# Altium footprint library CeleronLib_Connect.PcbLib: 219 footprints (part 4 of 14)
Each footprint in its own frame and in the unit in brackets; x right, y up, seen from the top. Pads: shape width x height; smd on the part's side, far side on the other; paste and mask are expansions set on the pad; w line width, h text height; cw(c..) or ccw(c..) is an arc to the next point about the centre after c.
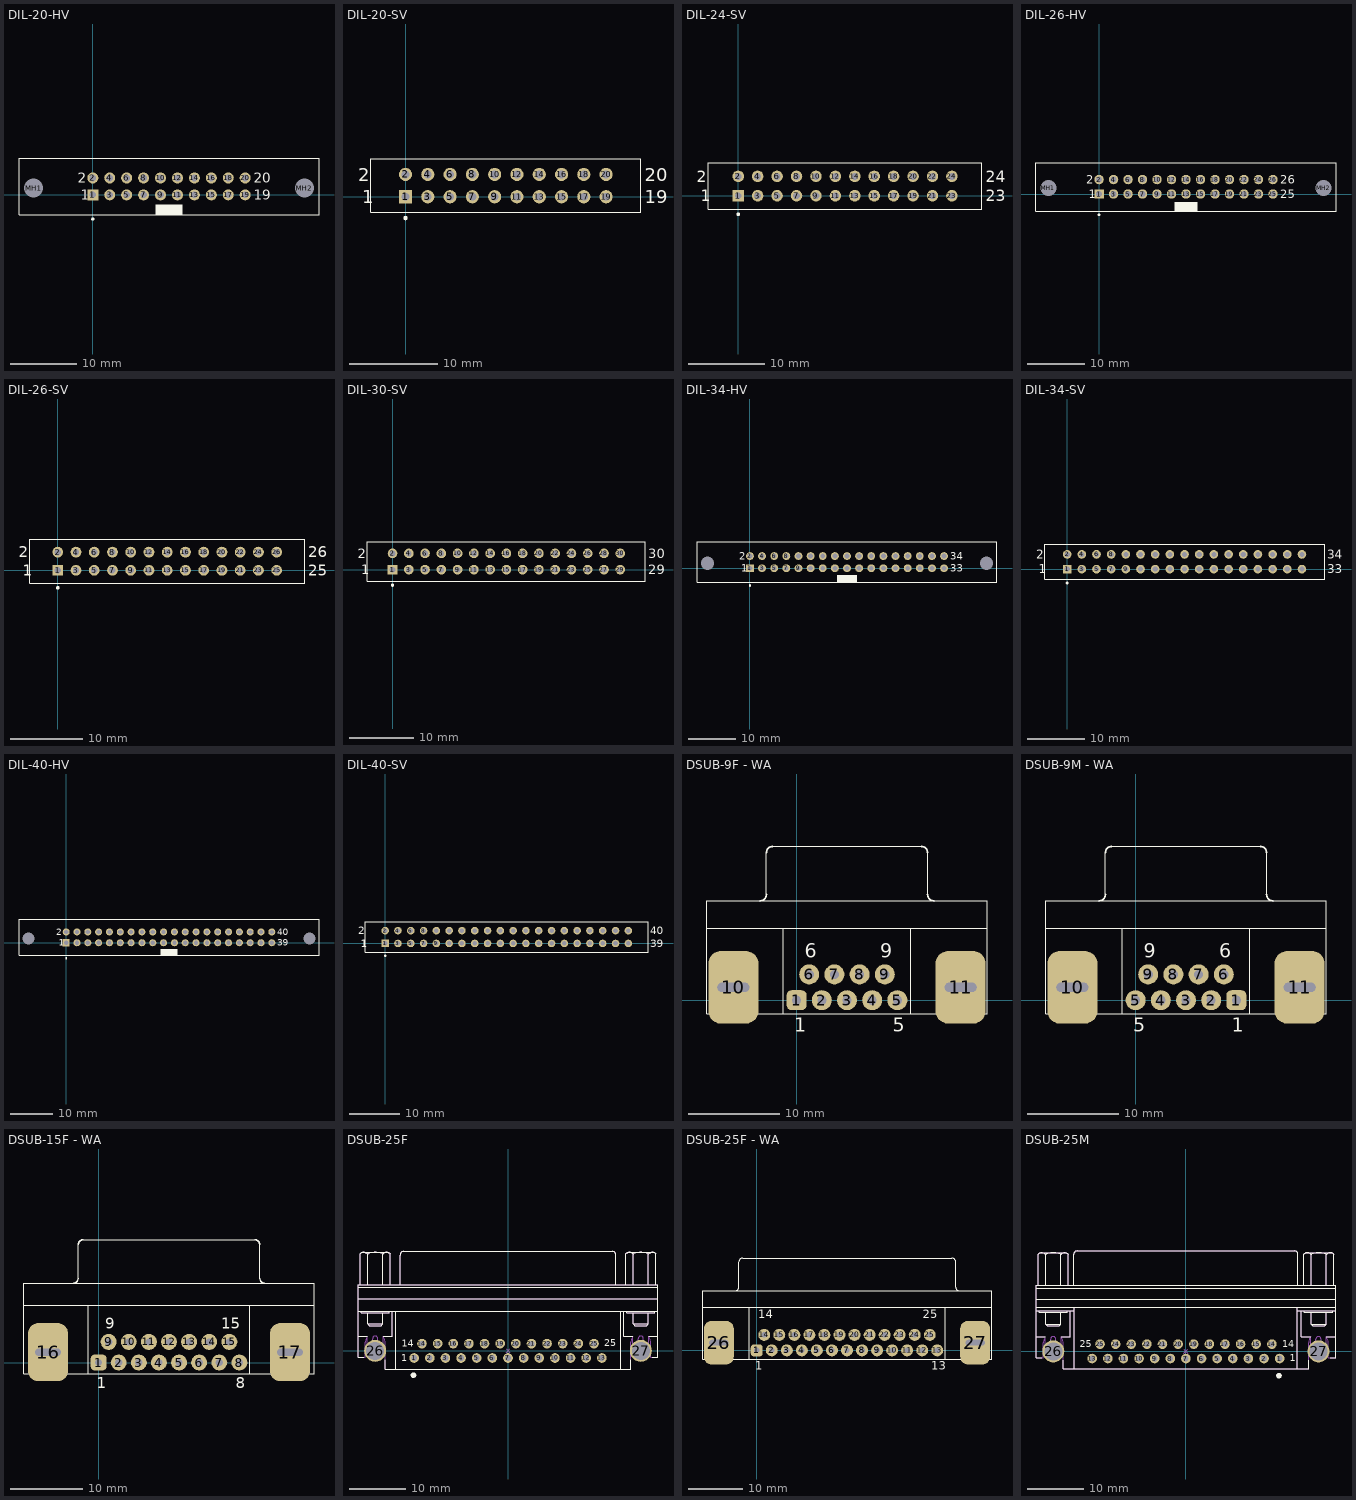
[diagram p3: the footprints below, top view; thin cyan lines are the x and y axes]

## DIL-20-HV [mm] "Connector; IDC, Thru-Hole; 20 Position; Vertical; Pitch 2.54 mm; Body 45.00 x 8.5 x 17.30 mm (LxWxH), Without locking levers"
height 17.3
pads (22):
  rect 1.65x1.65 hole 1: 1(0,0)
  round 1.65 hole 1: 2(0,2.54) 3(2.54,0) 4(2.54,2.54) 5(5.08,0) 6(5.08,2.54) 7(7.62,0) 8(7.62,2.54) 9(10.16,0) 10(10.16,2.54) 11(12.7,0) 12(12.7,2.54) 13(15.24,0) 14(15.24,2.54) 15(17.78,0) 16(17.78,2.54) 17(20.32,0) 18(20.32,2.54) 19(22.86,0) 20(22.86,2.54)
  round 2.5 hole 2.8 unplated: MH1(-8.89,1.02) MH2(31.75,1.02)
Top Overlay:
  circle w0.25: c0,-3.63 r0.125
  rectangle: 9.38,-2.98 13.48,-1.43
  lines w0.127: -11.07,-2.98 33.93,-2.98 33.93,5.52 -11.07,5.52 -11.07,-2.98
  text "19" at 24.14,-0.75 h1.5
  text "20" at 24.14,1.79 h1.5
  text "1" at -1.78,-0.75 h1.5
  text "2" at -2.28,1.79 h1.5

## DIL-20-SV [mm] "Connector; IDC, PCB Transition - 2 Rows, Thru-Hole; 20 Position; Vertical; Pitch 2.54 mm; Body 30.74 x 6.1 x 7.45 mm (LxWxH)"
height 7.45
pads (20):
  rect 1.5x1.5 hole 0.9: 1(0,0)
  round 1.5 hole 0.9: 2(0,2.54) 3(2.54,0) 4(2.54,2.54) 5(5.08,0) 6(5.08,2.54) 7(7.62,0) 8(7.62,2.54) 9(10.16,0) 10(10.16,2.54) 11(12.7,0) 12(12.7,2.54) 13(15.24,0) 14(15.24,2.54) 15(17.78,0) 16(17.78,2.54) 17(20.32,0) 18(20.32,2.54) 19(22.86,0) 20(22.86,2.54)
Top Overlay:
  circle w0.25: c0,-2.43 r0.125
  lines w0.127: -3.94,-1.78 -3.94,4.32 26.8,4.32 26.8,-1.78 -3.94,-1.78
  text "2" at -5.415,1.79 h1.5
  text "1" at -4.915,-0.75 h1.5
  text "20" at 27.275,1.79 h1.5
  text "19" at 27.275,-0.75 h1.5

## DIL-24-SV [mm] "Connector; IDC, PCB Transition - 2 Rows, Thru-Hole; 24 Position; Vertical; Pitch 2.54 mm; Body 35.78 x 6.1 x 7.45 mm (LxWxH)"
height 7.45
pads (24):
  rect 1.5x1.5 hole 0.9: 1(0,0)
  round 1.5 hole 0.9: 2(0,2.54) 3(2.54,0) 4(2.54,2.54) 5(5.08,0) 6(5.08,2.54) 7(7.62,0) 8(7.62,2.54) 9(10.16,0) 10(10.16,2.54) 11(12.7,0) 12(12.7,2.54) 13(15.24,0) 14(15.24,2.54) 15(17.78,0) 16(17.78,2.54) 17(20.32,0) 18(20.32,2.54) 19(22.86,0) 20(22.86,2.54) 21(25.4,0) 22(25.4,2.54) 23(27.94,0) 24(27.94,2.54)
Top Overlay:
  circle w0.25: c0,-2.43 r0.125
  lines w0.127: -3.92,-1.78 -3.92,4.32 31.86,4.32 31.86,-1.78 -3.92,-1.78
  text "2" at -5.395,1.79 h1.5
  text "1" at -4.895,-0.75 h1.5
  text "24" at 32.335,1.79 h1.5
  text "23" at 32.335,-0.75 h1.5

## DIL-26-HV [mm] "Connector; IDC, Thru-Hole; 26 Position; Vertical; Pitch 2.54 mm; Body 52.60 x 8.5 x 17.30 mm (LxWxH), Without locking levers"
height 17.3
pads (28):
  rect 1.65x1.65 hole 1: 1(0,0)
  round 1.65 hole 1: 2(0,2.54) 3(2.54,0) 4(2.54,2.54) 5(5.08,0) 6(5.08,2.54) 7(7.62,0) 8(7.62,2.54) 9(10.16,0) 10(10.16,2.54) 11(12.7,0) 12(12.7,2.54) 13(15.24,0) 14(15.24,2.54) 15(17.78,0) 16(17.78,2.54) 17(20.32,0) 18(20.32,2.54) 19(22.86,0) 20(22.86,2.54) 21(25.4,0) 22(25.4,2.54) 23(27.94,0) 24(27.94,2.54) 25(30.48,0) 26(30.48,2.54)
  round 2.5 hole 2.8 unplated: MH1(-8.89,1.02) MH2(39.37,1.02)
Top Overlay:
  circle w0.25: c0,-3.63 r0.125
  rectangle: 13.19,-2.98 17.29,-1.43
  lines w0.127: -11.06,-2.98 41.54,-2.98 41.54,5.52 -11.06,5.52 -11.06,-2.98
  text "25" at 31.76,-0.75 h1.5
  text "26" at 31.76,1.79 h1.5
  text "1" at -1.78,-0.75 h1.5
  text "2" at -2.28,1.79 h1.5

## DIL-26-SV [mm] "Connector; IDC, PCB Transition - 2 Rows, Thru-Hole; 26 Position; Vertical; Pitch 2.54 mm; Body 38.32 x 6.1 x 7.45 mm (LxWxH)"
height 7.45
pads (26):
  rect 1.5x1.5 hole 0.9: 1(0,0)
  round 1.5 hole 0.9: 2(0,2.54) 3(2.54,0) 4(2.54,2.54) 5(5.08,0) 6(5.08,2.54) 7(7.62,0) 8(7.62,2.54) 9(10.16,0) 10(10.16,2.54) 11(12.7,0) 12(12.7,2.54) 13(15.24,0) 14(15.24,2.54) 15(17.78,0) 16(17.78,2.54) 17(20.32,0) 18(20.32,2.54) 19(22.86,0) 20(22.86,2.54) 21(25.4,0) 22(25.4,2.54) 23(27.94,0) 24(27.94,2.54) 25(30.48,0) 26(30.48,2.54)
Top Overlay:
  circle w0.25: c0,-2.43 r0.125
  lines w0.127: -3.92,-1.78 34.4,-1.78 34.4,4.32 -3.92,4.32 -3.92,-1.78
  text "25" at 34.875,-0.75 h1.5
  text "26" at 34.875,1.79 h1.5
  text "1" at -4.895,-0.75 h1.5
  text "2" at -5.395,1.79 h1.5

## DIL-30-SV [mm] "Connector; IDC, PCB Transition - 2 Rows, Thru-Hole; 30 Position; Vertical; Pitch 2.54 mm; Body 43.40 x 6.1 x 7.45 mm (LxWxH)"
height 7.45
pads (30):
  rect 1.5x1.5 hole 0.9: 1(0,0)
  round 1.5 hole 0.9: 2(0,2.54) 3(2.54,0) 4(2.54,2.54) 5(5.08,0) 6(5.08,2.54) 7(7.62,0) 8(7.62,2.54) 9(10.16,0) 10(10.16,2.54) 11(12.7,0) 12(12.7,2.54) 13(15.24,0) 14(15.24,2.54) 15(17.78,0) 16(17.78,2.54) 17(20.32,0) 18(20.32,2.54) 19(22.86,0) 20(22.86,2.54) 21(25.4,0) 22(25.4,2.54) 23(27.94,0) 24(27.94,2.54) 25(30.48,0) 26(30.48,2.54) 27(33.02,0) 28(33.02,2.54) 29(35.56,0) 30(35.56,2.54)
Top Overlay:
  circle w0.25: c0,-2.43 r0.125
  lines w0.127: -3.92,-1.78 39.48,-1.78 39.48,4.32 -3.92,4.32 -3.92,-1.78
  text "29" at 39.955,-0.75 h1.5
  text "30" at 39.955,1.79 h1.5
  text "1" at -4.895,-0.75 h1.5
  text "2" at -5.395,1.79 h1.5

## DIL-34-HV [mm] "Connector; IDC, Thru-Hole; 34 Position; Vertical; Pitch 2.54 mm; Body 62.80 x 8.5 x 17.30 mm (LxWxH), Without locking levers"
height 17.3
pads (36):
  rect 1.65x1.65 hole 1: 1(0,0)
  round 1.65 hole 1: 2(0,2.54) 3(2.54,0) 4(2.54,2.54) 5(5.08,0) 6(5.08,2.54) 7(7.62,0) 8(7.62,2.54) 9(10.16,0) 10(10.16,2.54) 11(12.7,0) 12(12.7,2.54) 13(15.24,0) 14(15.24,2.54) 15(17.78,0) 16(17.78,2.54) 17(20.32,0) 18(20.32,2.54) 19(22.86,0) 20(22.86,2.54) 21(25.4,0) 22(25.4,2.54) 23(27.94,0) 24(27.94,2.54) 25(30.48,0) 26(30.48,2.54) 27(33.02,0) 28(33.02,2.54) 29(35.56,0) 30(35.56,2.54) 31(38.1,0) 32(38.1,2.54) 33(40.64,0) 34(40.64,2.54)
  round 2.5 hole 2.8 unplated: MH1(-8.89,1.02) MH2(49.53,1.02)
Top Overlay:
  circle w0.25: c0,-3.63 r0.125
  rectangle: 18.27,-2.98 22.37,-1.43
  lines w0.127: -11.08,-2.98 51.72,-2.98 51.72,5.52 -11.08,5.52 -11.08,-2.98
  text "33" at 41.92,-0.75 h1.5
  text "34" at 41.92,1.79 h1.5
  text "1" at -1.78,-0.75 h1.5
  text "2" at -2.28,1.79 h1.5

## DIL-34-SV [mm] "Connector; IDC, PCB Transition - 2 Rows, Thru-Hole; 34 Position; Vertical; Pitch 2.54 mm; Body 48.48 x 6.1 x 7.45 mm (LxWxH)"
height 7.45
pads (34):
  rect 1.5x1.5 hole 0.9: 1(0,0)
  round 1.5 hole 0.9: 2(0,2.54) 3(2.54,0) 4(2.54,2.54) 5(5.08,0) 6(5.08,2.54) 7(7.62,0) 8(7.62,2.54) 9(10.16,0) 10(10.16,2.54) 11(12.7,0) 12(12.7,2.54) 13(15.24,0) 14(15.24,2.54) 15(17.78,0) 16(17.78,2.54) 17(20.32,0) 18(20.32,2.54) 19(22.86,0) 20(22.86,2.54) 21(25.4,0) 22(25.4,2.54) 23(27.94,0) 24(27.94,2.54) 25(30.48,0) 26(30.48,2.54) 27(33.02,0) 28(33.02,2.54) 29(35.56,0) 30(35.56,2.54) 31(38.1,0) 32(38.1,2.54) 33(40.64,0) 34(40.64,2.54)
Top Overlay:
  circle w0.25: c0,-2.43 r0.125
  lines w0.127: -3.92,-1.78 -3.92,4.32 44.56,4.32 44.56,-1.78 -3.92,-1.78
  text "2" at -5.395,1.79 h1.5
  text "1" at -4.895,-0.75 h1.5
  text "34" at 45.035,1.79 h1.5
  text "33" at 45.035,-0.75 h1.5

## DIL-40-HV [mm] "Connector; IDC, Thru-Hole; 40 Position; Vertical; Pitch 2.54 mm; Body 70.40 x 8.5 x 17.30 mm (LxWxH), Without locking levers"
height 17.3
pads (42):
  rect 1.65x1.65 hole 1: 1(0,0)
  round 1.65 hole 1: 2(0,2.54) 3(2.54,0) 4(2.54,2.54) 5(5.08,0) 6(5.08,2.54) 7(7.62,0) 8(7.62,2.54) 9(10.16,0) 10(10.16,2.54) 11(12.7,0) 12(12.7,2.54) 13(15.24,0) 14(15.24,2.54) 15(17.78,0) 16(17.78,2.54) 17(20.32,0) 18(20.32,2.54) 19(22.86,0) 20(22.86,2.54) 21(25.4,0) 22(25.4,2.54) 23(27.94,0) 24(27.94,2.54) 25(30.48,0) 26(30.48,2.54) 27(33.02,0) 28(33.02,2.54) 29(35.56,0) 30(35.56,2.54) 31(38.1,0) 32(38.1,2.54) 33(40.64,0) 34(40.64,2.54) 35(43.18,0) 36(43.18,2.54) 37(45.72,0) 38(45.72,2.54) 39(48.26,0) 40(48.26,2.54)
  round 2.5 hole 2.8 unplated: MH1(-8.89,1.02) MH2(57.15,1.02)
Top Overlay:
  circle w0.25: c0,-3.63 r0.125
  rectangle: 22.08,-2.98 26.18,-1.43
  lines w0.127: -11.07,-2.98 59.33,-2.98 59.33,5.52 -11.07,5.52 -11.07,-2.98
  text "39" at 49.54,-0.75 h1.5
  text "40" at 49.54,1.79 h1.5
  text "1" at -1.78,-0.75 h1.5
  text "2" at -2.28,1.79 h1.5

## DIL-40-SV [mm] "Connector; IDC, PCB Transition - 2 Rows, Thru-Hole; 40 Position; Vertical; Pitch 2.54 mm; Body 56.10 x 6.1 x 7.45 mm (LxWxH)"
height 7.45
pads (40):
  rect 1.5x1.5 hole 0.9: 1(0,0)
  round 1.5 hole 0.9: 2(0,2.54) 3(2.54,0) 4(2.54,2.54) 5(5.08,0) 6(5.08,2.54) 7(7.62,0) 8(7.62,2.54) 9(10.16,0) 10(10.16,2.54) 11(12.7,0) 12(12.7,2.54) 13(15.24,0) 14(15.24,2.54) 15(17.78,0) 16(17.78,2.54) 17(20.32,0) 18(20.32,2.54) 19(22.86,0) 20(22.86,2.54) 21(25.4,0) 22(25.4,2.54) 23(27.94,0) 24(27.94,2.54) 25(30.48,0) 26(30.48,2.54) 27(33.02,0) 28(33.02,2.54) 29(35.56,0) 30(35.56,2.54) 31(38.1,0) 32(38.1,2.54) 33(40.64,0) 34(40.64,2.54) 35(43.18,0) 36(43.18,2.54) 37(45.72,0) 38(45.72,2.54) 39(48.26,0) 40(48.26,2.54)
Top Overlay:
  circle w0.25: c0,-2.43 r0.125
  lines w0.127: -3.92,-1.78 -3.92,4.32 52.18,4.32 52.18,-1.78 -3.92,-1.78
  text "2" at -5.395,1.79 h1.5
  text "1" at -4.895,-0.75 h1.5
  text "40" at 52.655,1.79 h1.5
  text "39" at 52.655,-0.75 h1.5

## DSUB-9F - WA [mm] "Female"
height 12.5
pads (11):
  rrect50% 2.2x2.2 hole 1: 1(0,0)
  round 2.2 hole 1: 2(2.77,0) 3(5.54,0) 4(8.31,0) 5(11.08,0) 6(1.385,2.84) 7(4.155,2.84) 8(6.925,2.84) 9(9.695,2.84)
  rrect50% 5.5x8 hole 1 slot 3.5 at 0 deg: 10(-6.955,1.42) 11(18.035,1.42)
Top Overlay:
  lines w0.127: -9.86,7.92 20.94,7.92 ; -3.325,11.62 -3.325,16.22 ; -2.625,16.92 13.705,16.92 ; -1.46,-1.48 -1.46,7.92 ; 12.54,-1.48 12.54,7.92 ; 14.405,11.62 14.405,16.22 ; -9.86,-1.48 20.94,-1.48 20.94,10.92 -9.86,10.92 -9.86,-1.48
  lines w0.2: -4.02,10.925 ccw(c-4.02,11.62) -3.325,11.62 ; -3.32,16.225 cw(c-2.625,16.225) -2.625,16.92 ; 13.705,16.92 cw(c13.705,16.225) 14.4,16.225 ; 14.405,11.62 ccw(c15.1,11.62) 15.1,10.925
  text "6" at 0.885,4.675 h1.52
  text "9" at 9.195,4.675 h1.52
  text "5" at 10.58,-3.455 h1.52
  text "1" at -0.25,-3.455 h1.52
3D body: height 12.7, standoff 0, extent -9.83,-3.658 21.031,16.916

## DSUB-9M - WA [mm] "Male"
height 12.5
pads (11):
  rrect50% 2.2x2.2 hole 1: 1(11.08,0)
  round 2.2 hole 1: 2(8.31,0) 3(5.54,0) 4(2.77,0) 5(0,0) 6(9.695,2.84) 7(6.925,2.84) 8(4.155,2.84) 9(1.385,2.84)
  rrect50% 5.5x8 hole 1 slot 3.5 at 0 deg: 10(-6.955,1.42) 11(18.035,1.42)
Top Overlay:
  lines w0.127: -9.86,7.92 20.94,7.92 ; -3.325,11.62 -3.325,16.22 ; -2.625,16.92 13.705,16.92 ; -1.46,-1.48 -1.46,7.92 ; 12.54,-1.48 12.54,7.92 ; 14.405,11.62 14.405,16.22 ; -9.86,-1.48 -9.86,10.92 20.94,10.92 20.94,-1.48 -9.86,-1.48
  lines w0.2: -4.02,10.925 ccw(c-4.02,11.62) -3.325,11.62 ; -3.32,16.225 cw(c-2.625,16.225) -2.625,16.92 ; 13.705,16.92 cw(c13.705,16.225) 14.4,16.225 ; 14.405,11.62 ccw(c15.1,11.62) 15.1,10.925
  text "5" at -0.25,-3.455 h1.52
  text "1" at 10.58,-3.455 h1.52
  text "6" at 9.195,4.675 h1.52
  text "9" at 0.885,4.675 h1.52
3D body: height 12.7, standoff 0, extent -9.883,-1.627 20.978,18.947

## DSUB-15F - WA [mm] "Female"
height 12.5
pads (17):
  rrect50% 2.2x2.2 hole 1: 1(0,0)
  round 2.2 hole 1: 2(2.77,0) 3(5.54,0) 4(8.31,0) 5(11.08,0) 6(13.85,0) 7(16.62,0) 8(19.39,0) 9(1.385,2.84) 10(4.155,2.84) 11(6.925,2.84) 12(9.695,2.84) 13(12.465,2.84) 14(15.235,2.84) 15(18.005,2.84)
  rrect50% 5.5x8 hole 1 slot 3.5 at 0 deg: 16(-6.965,1.42) 17(26.355,1.42)
Top Overlay:
  lines w0.127: -10.305,7.92 29.695,7.92 ; -2.805,11.62 -2.805,16.22 ; -2.105,16.92 21.495,16.92 ; -1.445,-1.58 -1.445,7.92 ; 20.835,-1.58 20.835,7.92 ; 22.195,11.62 22.195,16.22 ; -10.305,-1.58 29.695,-1.58 29.695,10.92 -10.305,10.92 -10.305,-1.58
  lines w0.2: -3.5,10.925 ccw(c-3.5,11.62) -2.805,11.62 ; -2.8,16.225 cw(c-2.105,16.225) -2.105,16.92 ; 21.495,16.92 cw(c21.495,16.225) 22.19,16.225 ; 22.195,11.62 ccw(c22.89,11.62) 22.89,10.925
  text "9" at 0.885,4.675 h1.52
  text "15" at 16.88,4.675 h1.52
  text "8" at 18.923,-3.556 h1.52
  text "1" at -0.25,-3.555 h1.52
3D body: height 12.7, standoff 0, extent -9.855,-1.753 29.261,16.535

## DSUB-25F [mm] "Right Angle 25 Female Contacts D-SUB Connector With Boardlock and 4-40 UNC Screwlocks"
height 13.575
pads (27):
  round 1.7 hole 1: 1(-16.62,-1.27) 2(-13.85,-1.27) 3(-11.08,-1.27) 4(-8.31,-1.27) 5(-5.54,-1.27) 6(-2.77,-1.27) 7(0,-1.27) 8(2.77,-1.27) 9(5.54,-1.27) 10(8.31,-1.27) 11(11.08,-1.27) 12(13.85,-1.27) 13(16.62,-1.27) 14(-15.235,1.27) 15(-12.465,1.27) 16(-9.695,1.27) 17(-6.925,1.27) 18(-4.155,1.27) 19(-1.385,1.27) 20(1.385,1.27) 21(4.155,1.27) 22(6.925,1.27) 23(9.695,1.27) 24(12.465,1.27) 25(15.235,1.27)
  round 3.9 hole 3.2: 26(-23.52,0) 27(23.52,0)
Top Overlay:
  circle w0.5: c-16.745,-4.305 r0.25
  lines w0.2: -26.55,2.62 -24.91,2.62 ; -26.55,7.01 26.55,7.01 ; -26.55,11.23 26.55,11.23 ; -26.508,9.2 26.55,9.2 ; -26.17,11.7 -26.17,17.15 -25.87,17.45 -21.17,17.45 -20.872,17.15 ; -26.168,17.15 cw(c-25.478,16.518) -25.555,17.45 cw(c-25.632,16.518) -24.943,17.15 -24.745,17.15 cw(c-23.52,14.717) -22.295,17.15 -22.097,17.15 cw(c-21.408,16.518) -21.485,17.45 cw(c-21.562,16.518) -20.872,17.15 ; -26.02,7.01 -26.02,6.76 -21.02,6.76 -21.02,7.01 ; -25.569,-1.15 -26.55,-1.15 -26.55,11.7 26.55,11.7 26.55,-1.15 25.569,-1.15 ; -24.86,6.76 -24.86,4.76 ; -24.845,11.7 -24.845,17.15 ; -22.195,11.7 -22.195,17.15 ; -22.18,6.76 -22.18,4.76 ; -22.13,2.62 -20.49,2.62 -20.49,7.01 ; -21.76,-1.557 -21.76,-3.28 21.76,-3.28 21.76,-1.557 ; -20.872,11.7 -20.872,17.15 ; -19.89,-3.28 -19.89,7.01 ; -19.11,11.7 -19.11,16.93 cw(c-18.445,16.935) -18.45,17.6 18.45,17.6 cw(c18.445,16.935) 19.11,16.93 19.11,11.7 ; 19.93,-3.28 19.93,7.01 ; 20.49,7.01 20.49,2.62 22.13,2.62 ; 20.87,11.7 20.87,17.15 21.17,17.45 25.87,17.45 26.168,17.15 ; 20.872,17.15 cw(c21.562,16.518) 21.485,17.45 cw(c21.408,16.518) 22.097,17.15 22.295,17.15 cw(c23.52,14.717) 24.745,17.15 24.943,17.15 cw(c25.632,16.518) 25.555,17.45 cw(c25.478,16.518) 26.168,17.15 ; 21.02,7.01 21.02,6.76 26.02,6.76 26.02,7.01 ; 22.18,6.76 22.18,4.76 ; 22.195,11.7 22.195,17.15 ; 24.845,11.7 24.845,17.15 ; 24.86,6.76 24.86,4.76 ; 24.91,2.62 26.55,2.62 ; 26.168,11.7 26.168,17.15 ; -24.86,4.76 -22.18,4.76 ; -24.86,4.76 -24.56,4.46 -22.48,4.46 -22.18,4.76 ; 22.18,4.76 24.86,4.76 ; 22.18,4.76 22.48,4.46 24.56,4.46 24.86,4.76
  text "25" at 17.04,0.77 h1.2
  text "14" at -18.86,0.72 h1.2
  text "1" at -18.885,-1.88 h1.2
Mechanical 8:
  lines w0.1: -24.02,0 -23.52,0 ; -23.52,-0.5 -23.52,0 ; -23.52,0.5 -23.52,0 ; -23.02,0 -23.52,0 ; -17.12,-1.27 -16.62,-1.27 ; -16.62,-1.77 -16.62,-1.27 ; -16.62,-0.77 -16.62,-1.27 ; -16.12,-1.27 -16.62,-1.27 ; -15.735,1.27 -15.235,1.27 ; -15.235,0.77 -15.235,1.27 ; -15.235,1.77 -15.235,1.27 ; -14.735,1.27 -15.235,1.27 ; -14.35,-1.27 -13.85,-1.27 ; -13.85,-1.77 -13.85,-1.27 ; -13.85,-0.77 -13.85,-1.27 ; -13.35,-1.27 -13.85,-1.27 ; -12.965,1.27 -12.465,1.27 ; -12.465,0.77 -12.465,1.27 ; -12.465,1.77 -12.465,1.27 ; -11.965,1.27 -12.465,1.27 ; -11.58,-1.27 -11.08,-1.27 ; -11.08,-1.77 -11.08,-1.27 ; -11.08,-0.77 -11.08,-1.27 ; -10.58,-1.27 -11.08,-1.27 ; -10.195,1.27 -9.695,1.27 ; -9.695,0.77 -9.695,1.27 ; -9.695,1.77 -9.695,1.27 ; -9.195,1.27 -9.695,1.27 ; -8.81,-1.27 -8.31,-1.27 ; -8.31,-1.77 -8.31,-1.27 ; -8.31,-0.77 -8.31,-1.27 ; -7.81,-1.27 -8.31,-1.27 ; -7.425,1.27 -6.925,1.27 ; -6.925,0.77 -6.925,1.27 ; -6.925,1.77 -6.925,1.27 ; -6.425,1.27 -6.925,1.27 ; -6.04,-1.27 -5.54,-1.27 ; -5.54,-1.77 -5.54,-1.27 ; -5.54,-0.77 -5.54,-1.27 ; -5.04,-1.27 -5.54,-1.27 ; -4.655,1.27 -4.155,1.27 ; -4.155,0.77 -4.155,1.27 ; -4.155,1.77 -4.155,1.27 ; -3.655,1.27 -4.155,1.27 ; -3.27,-1.27 -2.77,-1.27 ; -2.77,-1.77 -2.77,-1.27 ; -2.77,-0.77 -2.77,-1.27 ; -2.27,-1.27 -2.77,-1.27 ; -1.885,1.27 -1.385,1.27 ; -1.385,0.77 -1.385,1.27 ; -1.385,1.77 -1.385,1.27 ; -0.885,1.27 -1.385,1.27 ; -0.5,-1.27 0,-1.27 ; -0.354,-0.354 0,0 ; -0.354,0.354 0,0 ; 0,-1.77 0,-1.27 ; 0,-0.77 0,-1.27 ; 0.354,-0.354 0,0 ; 0.354,0.354 0,0 ; 0.5,-1.27 0,-1.27 ; 0.885,1.27 1.385,1.27 ; 1.385,0.77 1.385,1.27 ; 1.385,1.77 1.385,1.27 ; 1.885,1.27 1.385,1.27 ; 2.27,-1.27 2.77,-1.27 ; 2.77,-1.77 2.77,-1.27 ; 2.77,-0.77 2.77,-1.27 ; 3.27,-1.27 2.77,-1.27 ; 3.655,1.27 4.155,1.27 ; 4.155,0.77 4.155,1.27 ; 4.155,1.77 4.155,1.27 ; 4.655,1.27 4.155,1.27 ; 5.04,-1.27 5.54,-1.27 ; 5.54,-1.77 5.54,-1.27 ; 5.54,-0.77 5.54,-1.27 ; 6.04,-1.27 5.54,-1.27 ; 6.425,1.27 6.925,1.27 ; 6.925,0.77 6.925,1.27 ; 6.925,1.77 6.925,1.27 ; 7.425,1.27 6.925,1.27 ; 7.81,-1.27 8.31,-1.27 ; 8.31,-1.77 8.31,-1.27 ; 8.31,-0.77 8.31,-1.27 ; 8.81,-1.27 8.31,-1.27 ; 9.195,1.27 9.695,1.27 ; 9.695,0.77 9.695,1.27 ; 9.695,1.77 9.695,1.27 ; 10.195,1.27 9.695,1.27 ; 10.58,-1.27 11.08,-1.27 ; 11.08,-1.77 11.08,-1.27 ; 11.08,-0.77 11.08,-1.27 ; 11.58,-1.27 11.08,-1.27 ; 11.965,1.27 12.465,1.27 ; 12.465,0.77 12.465,1.27 ; 12.465,1.77 12.465,1.27 ; 12.965,1.27 12.465,1.27 ; 13.35,-1.27 13.85,-1.27 ; 13.85,-1.77 13.85,-1.27 ; 13.85,-0.77 13.85,-1.27 ; 14.35,-1.27 13.85,-1.27 ; 14.735,1.27 15.235,1.27 ; 15.235,0.77 15.235,1.27 ; 15.235,1.77 15.235,1.27 ; 15.735,1.27 15.235,1.27 ; 16.12,-1.27 16.62,-1.27 ; 16.62,-1.77 16.62,-1.27 ; 16.62,-0.77 16.62,-1.27 ; 17.12,-1.27 16.62,-1.27 ; 23.02,0 23.52,0 ; 23.52,-0.5 23.52,0 ; 23.52,0.5 23.52,0 ; 24.02,0 23.52,0
Top Assy:
  lines w0.1: -26.55,2.62 -24.91,2.62 -24.91,-0.318 -23.97,-0.32 -23.97,2.17 cw(c-23.52,2.17) -23.07,2.17 -23.07,-0.316 -22.13,-0.32 -22.13,2.62 -20.49,2.62 -20.49,7.01 ; -26.55,7.01 26.55,7.01 ; -26.55,11.23 26.55,11.23 ; -26.508,9.2 26.55,9.2 ; -26.17,11.7 -26.17,17.15 -25.87,17.45 -21.17,17.45 -20.872,17.15 ; -26.168,17.15 cw(c-25.478,16.518) -25.555,17.45 cw(c-25.632,16.518) -24.943,17.15 -24.745,17.15 cw(c-23.52,14.717) -22.295,17.15 -22.097,17.15 cw(c-21.408,16.518) -21.485,17.45 cw(c-21.562,16.518) -20.872,17.15 ; -26.02,7.01 -26.02,6.76 -21.02,6.76 -21.02,7.01 ; -24.91,2.6 ccw(c-23.52,1.52) -25.28,1.52 -25.28,-1.15 -26.55,-1.15 -26.55,11.7 26.55,11.7 26.55,-1.15 25.28,-1.15 25.28,1.52 ccw(c23.52,1.52) 24.91,2.6 ; -24.86,6.76 -24.86,4.76 ; -24.845,11.7 -24.845,17.15 ; -22.195,11.7 -22.195,17.15 ; -22.18,6.76 -22.18,4.76 ; -22.13,2.6 cw(c-23.52,1.52) -21.76,1.52 -21.76,-3.28 21.76,-3.28 21.76,1.52 cw(c23.52,1.52) 22.13,2.6 ; -20.872,11.7 -20.872,17.15 ; -19.89,-3.28 -19.89,7.01 ; -19.11,11.7 -19.11,16.93 cw(c-18.445,16.935) -18.45,17.6 18.45,17.6 cw(c18.445,16.935) 19.11,16.93 19.11,11.7 ; 19.93,-3.28 19.93,7.01 ; 20.49,7.01 20.49,2.62 22.13,2.62 22.13,-0.32 23.07,-0.32 23.07,2.17 cw(c23.52,2.17) 23.97,2.17 23.97,-0.32 24.91,-0.32 24.91,2.62 26.55,2.62 ; 20.87,11.7 20.87,17.15 21.17,17.45 25.87,17.45 26.168,17.15 ; 20.872,17.15 cw(c21.562,16.518) 21.485,17.45 cw(c21.408,16.518) 22.097,17.15 22.295,17.15 cw(c23.52,14.717) 24.745,17.15 24.943,17.15 cw(c25.632,16.518) 25.555,17.45 cw(c25.478,16.518) 26.168,17.15 ; 21.02,7.01 21.02,6.76 26.02,6.76 26.02,7.01 ; 22.18,6.76 22.18,4.76 ; 22.195,11.7 22.195,17.15 ; 24.845,11.7 24.845,17.15 ; 24.86,6.76 24.86,4.76 ; 26.168,11.7 26.168,17.15 ; -24.86,4.76 -22.18,4.76 ; -24.86,4.76 -24.56,4.46 -22.48,4.46 -22.18,4.76 ; 22.18,4.76 24.86,4.76 ; 22.18,4.76 22.48,4.46 24.56,4.46 24.86,4.76
  text "25" at 17.04,0.77 h1.2
  text "14" at -18.86,0.72 h1.2
  text "1" at -18.885,-1.88 h1.2
3D body: height 13.57, standoff -3.77, extent -26.55,-3.28 26.55,17.6

## DSUB-25F - WA [mm] "Female"
height 12.5
pads (27):
  rrect50% 2.2x2.2 hole 1: 1(0,0)
  round 2.2 hole 1: 2(2.761,0) 3(5.522,0) 4(8.283,0) 5(11.044,0) 6(13.805,0) 7(16.566,0) 8(19.327,0) 9(22.088,0) 10(24.849,0) 11(27.61,0) 12(30.371,0) 13(33.132,0) 14(1.381,2.84) 15(4.142,2.84) 16(6.903,2.84) 17(9.664,2.84) 18(12.425,2.84) 19(15.186,2.84) 20(17.946,2.84) 21(20.708,2.84) 22(23.469,2.84) 23(26.23,2.84) 24(28.991,2.84) 25(31.752,2.84)
  rrect50% 5.5x8 hole 1 slot 3.5 at 0 deg: 26(-6.96,1.42) 27(40.092,1.42)
Top Overlay:
  lines w0.127: -9.93,7.92 43.17,7.92 ; -3.28,11.62 -3.28,16.22 ; -2.58,16.92 35.82,16.92 ; -1.38,-1.58 -1.38,7.92 ; 34.62,-1.58 34.62,7.92 ; 36.52,11.62 36.52,16.22 ; -9.93,-1.58 -9.93,10.92 43.17,10.92 43.17,-1.58 -9.93,-1.58
  lines w0.2: -3.975,10.925 ccw(c-3.975,11.62) -3.28,11.62 ; -3.275,16.225 cw(c-2.58,16.225) -2.58,16.92 ; 35.82,16.92 cw(c35.82,16.225) 36.515,16.225 ; 36.52,11.62 ccw(c37.215,11.62) 37.215,10.925
  text "25" at 30.502,5.945 h1.52
  text "14" at 0.256,5.945 h1.52
  text "13" at 32.007,-3.555 h1.52
  text "1" at -0.25,-3.555 h1.52
3D body: height 12.7, standoff 0, extent -9.986,-1.771 43.1,16.771

## DSUB-25M [mm] "Right Angle 25 Male Contacts D-SUB Connector With Boardlock and 4-40 UNC Screwlocks"
height 13.575
pads (27):
  round 1.7 hole 1: 1(16.62,-1.27) 2(13.85,-1.27) 3(11.08,-1.27) 4(8.31,-1.27) 5(5.54,-1.27) 6(2.77,-1.27) 7(0,-1.27) 8(-2.77,-1.27) 9(-5.54,-1.27) 10(-8.31,-1.27) 11(-11.08,-1.27) 12(-13.85,-1.27) 13(-16.62,-1.27) 14(15.235,1.27) 15(12.465,1.27) 16(9.695,1.27) 17(6.925,1.27) 18(4.155,1.27) 19(1.385,1.27) 20(-1.385,1.27) 21(-4.155,1.27) 22(-6.925,1.27) 23(-9.695,1.27) 24(-12.465,1.27) 25(-15.235,1.27)
  round 3.9 hole 3.2: 26(-23.52,0) 27(23.52,0)
Top Overlay:
  circle w0.5: c16.495,-4.305 r0.25
  lines w0.2: -26.567,2.62 -24.927,2.62 ; -26.567,7.21 -19.772,7.21 ; -26.567,7.85 26.533,7.85 ; -26.567,11.23 26.533,11.23 ; -26.525,9.2 26.533,9.2 ; -26.187,11.7 -26.187,17.2 -25.887,17.5 -21.187,17.5 -20.889,17.2 ; -26.184,17.2 cw(c-25.495,16.568) -25.572,17.5 cw(c-25.649,16.568) -24.959,17.2 -24.761,17.2 cw(c-23.537,14.767) -22.312,17.2 -22.114,17.2 cw(c-21.424,16.568) -21.501,17.5 cw(c-21.579,16.568) -20.889,17.2 ; -26.037,7.21 -26.037,6.96 -21.037,6.96 -21.037,7.21 ; -25.569,-1.15 -26.567,-1.15 -26.567,11.7 26.533,11.7 26.533,-1.15 25.569,-1.15 ; -24.877,6.96 -24.877,4.8 ; -24.862,11.7 -24.862,17.2 ; -22.212,11.7 -22.212,17.2 ; -22.197,6.96 -22.197,4.8 ; -22.147,2.62 -20.507,2.62 -20.507,7.21 ; -21.777,-1.576 -21.777,-3.08 21.743,-3.08 21.743,-1.538 ; -20.889,11.7 -20.889,17.2 ; -19.894,11.7 -19.894,17.2 cw(c-19.294,17.2) -19.294,17.8 19.263,17.8 cw(c19.263,17.2) 19.863,17.2 19.863,11.7 ; -19.772,-3.08 -19.772,7.85 ; 19.738,-3.08 19.738,7.85 ; 19.738,7.21 26.533,7.21 ; 20.473,7.21 20.473,2.62 22.113,2.62 ; 20.913,11.7 20.913,17.209 21.213,17.509 25.913,17.509 26.211,17.209 ; 20.916,17.209 cw(c21.605,16.577) 21.528,17.509 cw(c21.451,16.577) 22.141,17.209 22.339,17.209 cw(c23.563,14.777) 24.788,17.209 24.986,17.209 cw(c25.676,16.577) 25.599,17.509 cw(c25.522,16.577) 26.211,17.209 ; 21.003,7.21 21.003,6.96 26.003,6.96 26.003,7.21 ; 22.223,6.96 22.223,4.8 ; 22.238,11.7 22.238,17.209 ; 24.888,11.7 24.888,17.209 ; 24.893,2.62 26.533,2.62 ; 24.903,6.96 24.903,4.8 ; 26.211,11.7 26.211,17.209 ; -24.877,4.8 -22.197,4.8 ; -24.877,4.8 -24.577,4.5 -22.497,4.5 -22.197,4.8 ; 22.223,4.8 24.903,4.8 ; 22.223,4.8 22.523,4.5 24.603,4.5 24.903,4.8
  text "1" at 18.425,-1.77 h1.2
  text "25" at -18.86,0.72 h1.2
  text "14" at 17.04,0.77 h1.2
Mechanical 8:
  lines w0.1: -24.02,0 -23.52,0 ; -23.52,-0.5 -23.52,0 ; -23.52,0.5 -23.52,0 ; -23.02,0 -23.52,0 ; -17.12,-1.27 -16.62,-1.27 ; -16.62,-1.77 -16.62,-1.27 ; -16.62,-0.77 -16.62,-1.27 ; -16.12,-1.27 -16.62,-1.27 ; -15.735,1.27 -15.235,1.27 ; -15.235,0.77 -15.235,1.27 ; -15.235,1.77 -15.235,1.27 ; -14.735,1.27 -15.235,1.27 ; -14.35,-1.27 -13.85,-1.27 ; -13.85,-1.77 -13.85,-1.27 ; -13.85,-0.77 -13.85,-1.27 ; -13.35,-1.27 -13.85,-1.27 ; -12.965,1.27 -12.465,1.27 ; -12.465,0.77 -12.465,1.27 ; -12.465,1.77 -12.465,1.27 ; -11.965,1.27 -12.465,1.27 ; -11.58,-1.27 -11.08,-1.27 ; -11.08,-1.77 -11.08,-1.27 ; -11.08,-0.77 -11.08,-1.27 ; -10.58,-1.27 -11.08,-1.27 ; -10.195,1.27 -9.695,1.27 ; -9.695,0.77 -9.695,1.27 ; -9.695,1.77 -9.695,1.27 ; -9.195,1.27 -9.695,1.27 ; -8.81,-1.27 -8.31,-1.27 ; -8.31,-1.77 -8.31,-1.27 ; -8.31,-0.77 -8.31,-1.27 ; -7.81,-1.27 -8.31,-1.27 ; -7.425,1.27 -6.925,1.27 ; -6.925,0.77 -6.925,1.27 ; -6.925,1.77 -6.925,1.27 ; -6.425,1.27 -6.925,1.27 ; -6.04,-1.27 -5.54,-1.27 ; -5.54,-1.77 -5.54,-1.27 ; -5.54,-0.77 -5.54,-1.27 ; -5.04,-1.27 -5.54,-1.27 ; -4.655,1.27 -4.155,1.27 ; -4.155,0.77 -4.155,1.27 ; -4.155,1.77 -4.155,1.27 ; -3.655,1.27 -4.155,1.27 ; -3.27,-1.27 -2.77,-1.27 ; -2.77,-1.77 -2.77,-1.27 ; -2.77,-0.77 -2.77,-1.27 ; -2.27,-1.27 -2.77,-1.27 ; -1.885,1.27 -1.385,1.27 ; -1.385,0.77 -1.385,1.27 ; -1.385,1.77 -1.385,1.27 ; -0.885,1.27 -1.385,1.27 ; -0.5,-1.27 0,-1.27 ; -0.354,-0.354 0,0 ; -0.354,0.354 0,0 ; 0,-1.77 0,-1.27 ; 0,-0.77 0,-1.27 ; 0.354,-0.354 0,0 ; 0.354,0.354 0,0 ; 0.5,-1.27 0,-1.27 ; 0.885,1.27 1.385,1.27 ; 1.385,0.77 1.385,1.27 ; 1.385,1.77 1.385,1.27 ; 1.885,1.27 1.385,1.27 ; 2.27,-1.27 2.77,-1.27 ; 2.77,-1.77 2.77,-1.27 ; 2.77,-0.77 2.77,-1.27 ; 3.27,-1.27 2.77,-1.27 ; 3.655,1.27 4.155,1.27 ; 4.155,0.77 4.155,1.27 ; 4.155,1.77 4.155,1.27 ; 4.655,1.27 4.155,1.27 ; 5.04,-1.27 5.54,-1.27 ; 5.54,-1.77 5.54,-1.27 ; 5.54,-0.77 5.54,-1.27 ; 6.04,-1.27 5.54,-1.27 ; 6.425,1.27 6.925,1.27 ; 6.925,0.77 6.925,1.27 ; 6.925,1.77 6.925,1.27 ; 7.425,1.27 6.925,1.27 ; 7.81,-1.27 8.31,-1.27 ; 8.31,-1.77 8.31,-1.27 ; 8.31,-0.77 8.31,-1.27 ; 8.81,-1.27 8.31,-1.27 ; 9.195,1.27 9.695,1.27 ; 9.695,0.77 9.695,1.27 ; 9.695,1.77 9.695,1.27 ; 10.195,1.27 9.695,1.27 ; 10.58,-1.27 11.08,-1.27 ; 11.08,-1.77 11.08,-1.27 ; 11.08,-0.77 11.08,-1.27 ; 11.58,-1.27 11.08,-1.27 ; 11.965,1.27 12.465,1.27 ; 12.465,0.77 12.465,1.27 ; 12.465,1.77 12.465,1.27 ; 12.965,1.27 12.465,1.27 ; 13.35,-1.27 13.85,-1.27 ; 13.85,-1.77 13.85,-1.27 ; 13.85,-0.77 13.85,-1.27 ; 14.35,-1.27 13.85,-1.27 ; 14.735,1.27 15.235,1.27 ; 15.235,0.77 15.235,1.27 ; 15.235,1.77 15.235,1.27 ; 15.735,1.27 15.235,1.27 ; 16.12,-1.27 16.62,-1.27 ; 16.62,-1.77 16.62,-1.27 ; 16.62,-0.77 16.62,-1.27 ; 17.12,-1.27 16.62,-1.27 ; 23.02,0 23.52,0 ; 23.52,-0.5 23.52,0 ; 23.52,0.5 23.52,0 ; 24.02,0 23.52,0
Top Assy:
  lines w0.1: -26.567,2.62 -24.927,2.62 -24.927,-0.32 -23.987,-0.32 -23.987,2.17 cw(c-23.537,2.17) -23.087,2.17 -23.087,-0.32 -22.147,-0.32 -22.147,2.62 -20.507,2.62 -20.507,7.21 ; -26.567,7.21 -19.772,7.21 ; -26.567,7.85 26.533,7.85 ; -26.567,11.23 26.533,11.23 ; -26.525,9.2 26.533,9.2 ; -26.187,11.7 -26.187,17.2 -25.887,17.5 -21.187,17.5 -20.889,17.2 ; -26.184,17.2 cw(c-25.495,16.568) -25.572,17.5 cw(c-25.649,16.568) -24.959,17.2 -24.761,17.2 cw(c-23.537,14.767) -22.312,17.2 -22.114,17.2 cw(c-21.424,16.568) -21.501,17.5 cw(c-21.579,16.568) -20.889,17.2 ; -26.037,7.21 -26.037,6.96 -21.037,6.96 -21.037,7.21 ; -24.927,2.6 ccw(c-23.537,1.52) -25.297,1.52 -25.297,-1.15 -26.567,-1.15 -26.567,11.7 26.533,11.7 26.533,-1.15 25.263,-1.15 25.263,1.52 ccw(c23.503,1.52) 24.893,2.6 ; -24.877,6.96 -24.877,4.8 ; -24.862,11.7 -24.862,17.2 ; -22.212,11.7 -22.212,17.2 ; -22.197,6.96 -22.197,4.8 ; -22.147,2.6 cw(c-23.537,1.52) -21.777,1.52 -21.777,-3.08 21.743,-3.08 21.743,1.52 cw(c23.503,1.52) 22.113,2.6 ; -20.889,11.7 -20.889,17.2 ; -19.894,11.7 -19.894,17.2 cw(c-19.294,17.2) -19.294,17.8 19.263,17.8 cw(c19.263,17.2) 19.863,17.2 19.863,11.7 ; -19.772,-3.08 -19.772,7.85 ; 19.738,-3.08 19.738,7.85 ; 19.738,7.21 26.533,7.21 ; 20.473,7.21 20.473,2.62 22.113,2.62 22.113,-0.318 23.053,-0.32 23.053,2.17 cw(c23.503,2.17) 23.953,2.17 23.953,-0.32 24.893,-0.32 24.893,2.62 26.533,2.62 ; 20.913,11.7 20.913,17.209 21.213,17.509 25.913,17.509 26.211,17.209 ; 20.916,17.209 cw(c21.605,16.577) 21.528,17.509 cw(c21.451,16.577) 22.141,17.209 22.339,17.209 cw(c23.563,14.777) 24.788,17.209 24.986,17.209 cw(c25.676,16.577) 25.599,17.509 cw(c25.522,16.577) 26.211,17.209 ; 21.003,7.21 21.003,6.96 26.003,6.96 26.003,7.21 ; 22.223,6.96 22.223,4.8 ; 22.238,11.7 22.238,17.209 ; 24.888,11.7 24.888,17.209 ; 24.903,6.96 24.903,4.8 ; 26.211,11.7 26.211,17.209 ; -24.877,4.8 -22.197,4.8 ; -24.877,4.8 -24.577,4.5 -22.497,4.5 -22.197,4.8 ; 22.223,4.8 24.903,4.8 ; 22.223,4.8 22.523,4.5 24.603,4.5 24.903,4.8
  text "1" at 18.425,-1.77 h1.2
  text "25" at -18.86,0.72 h1.2
  text "14" at 17.04,0.77 h1.2
3D body: height 13.57, standoff -3.8, extent -26.567,-3.08 26.533,17.8